# Altium footprint library Connector Footprints.PcbLib: 89 footprints (part 5 of 6)
Each footprint in its own frame and in the unit in brackets; x right, y up, seen from the top. Pads: shape width x height; smd on the part's side, far side on the other; paste and mask are expansions set on the pad; w line width, h text height; cw(c..) or ccw(c..) is an arc to the next point about the centre after c.
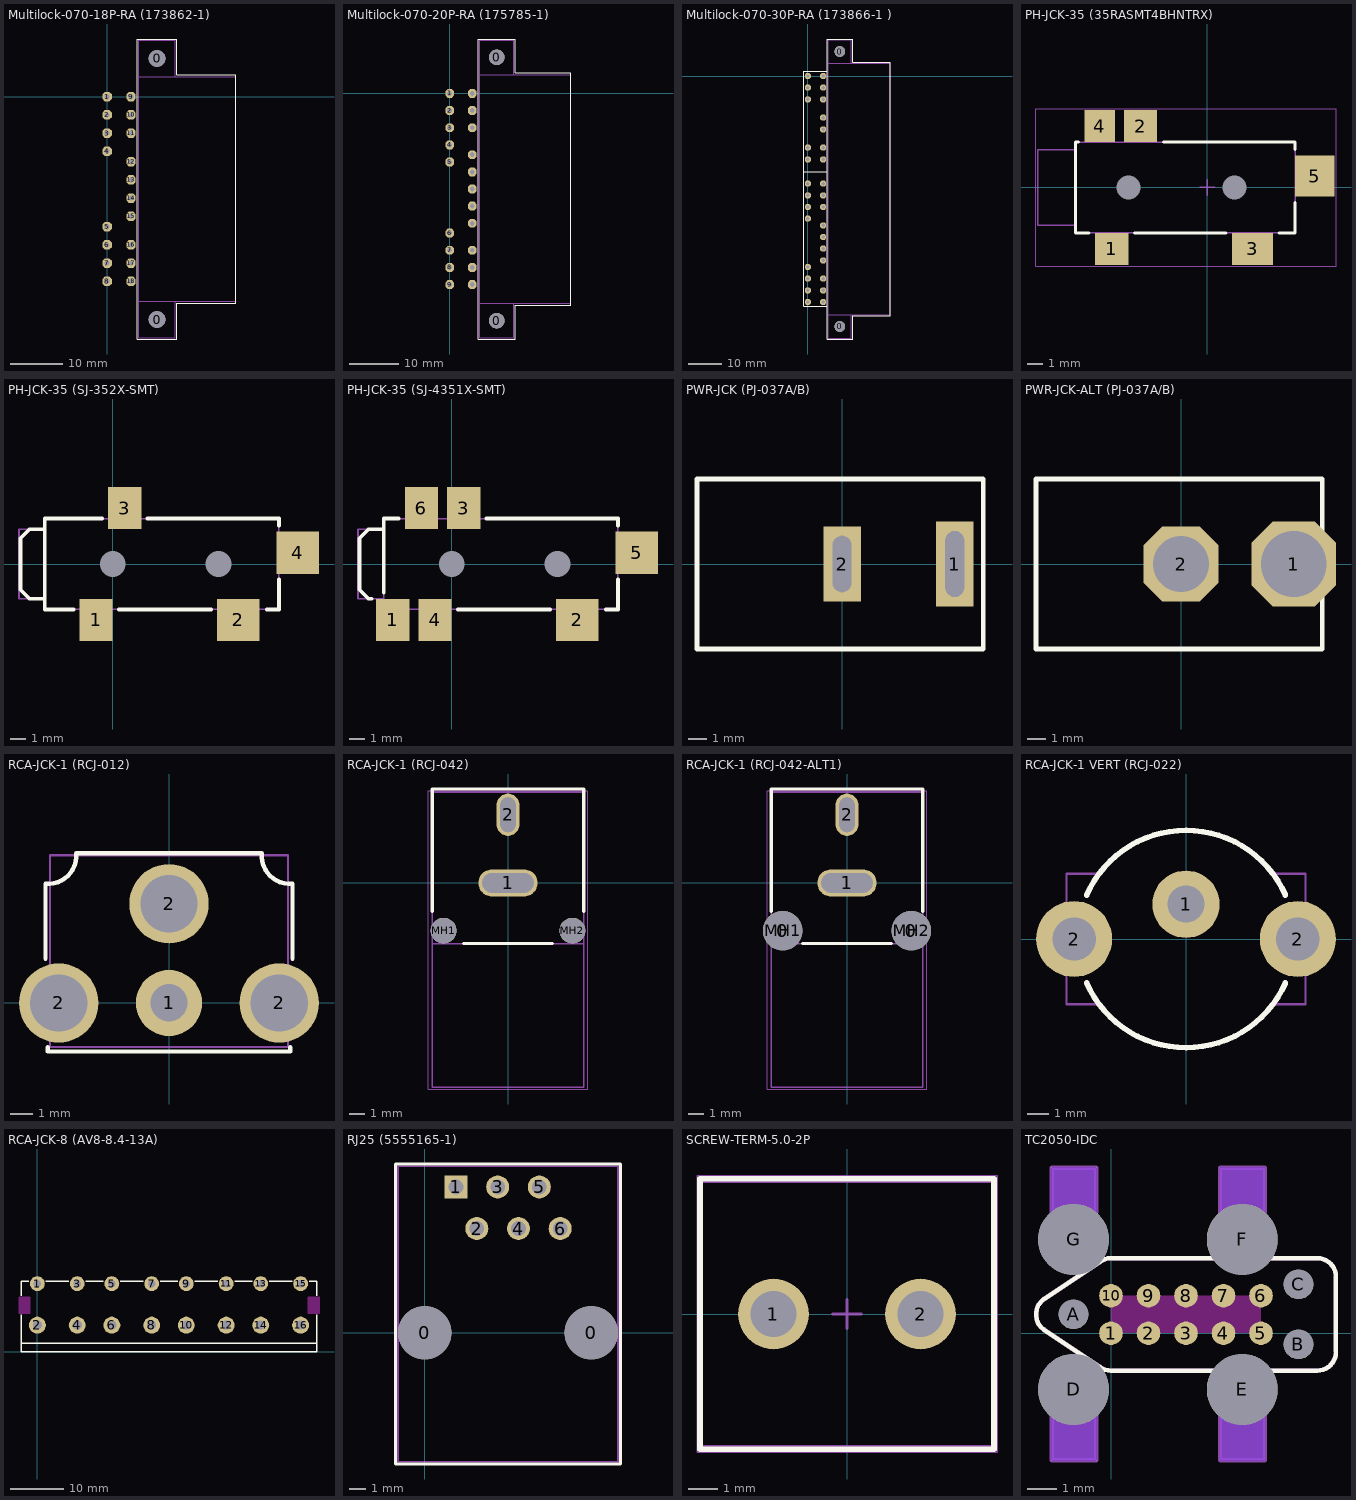
[diagram p4: the footprints below, top view; thin cyan lines are the x and y axes]

## Multilock-070-18P-RA (173862-1) [mm] "Multilock 070, 18 Pin, 3.5mm Pitch, Right Angle Mount"
height 15.8
pads (20):
  round 3.2 hole 3.2 unplated paste+0: 0(9.6,-42.85) 0(9.6,7.35)
  oct 1.8x1.8 hole 1: 1(0,0) 2(0,-3.5) 3(0,-7) 4(0,-10.5) 5(0,-25) 6(0,-28.5) 7(0,-32) 8(0,-35.5) 9(4.6,0) 10(4.6,-3.5) 11(4.6,-7) 12(4.6,-12.5) 13(4.6,-16) 14(4.6,-19.5) 15(4.6,-23) 16(4.6,-28.5) 17(4.6,-32) 18(4.6,-35.5)
Top Overlay:
  lines w0.2: 5.8,-39.35 5.8,3.85 5.8,11.1 13.4,11.1 13.4,4.2 24.7,4.2 24.7,-39.7 13.4,-39.7 13.4,-46.6 5.8,-46.6 5.8,-39.3
Bottom Overlay:
  text "9" at 5.4,3.2 h1.5
  text "1" at 0.8,2.7 h1.5
  text "8" at 0.8,-37.8 h1.5
  text "18" at 5.3,-37.2 h1.5
Mechanical 13:
  lines w0.2: 13.1,-39.35 13.1,-46.35 6.1,-46.35 6.1,-39.35 ; 13.1,3.85 13.1,10.85 6.1,10.85 6.1,3.85 ; 6.1,-39.35 6.1,3.85 ; 6.1,-39.35 24.7,-39.35 24.7,3.85 6.1,3.85
3D body "c-173862-1-y-3d.stp": height 15.98, standoff -3.9, extent -0.3,-46.2 24.62,10.6

## Multilock-070-20P-RA (175785-1) [mm] "Multilock 070, 20 Pin, 3.5mm Pitch, Right Angle Mount"
height 15.8
pads (22):
  round 3.2 hole 3.2 unplated paste+0: 0(9.6,-46.35) 0(9.6,7.35)
  oct 1.8x1.8 hole 1: 1(0,0) 2(0,-3.5) 3(0,-7) 4(0,-10.5) 5(0,-14) 6(0,-28.5) 7(0,-32) 8(0,-35.5) 9(0,-39) 10(4.6,0) 11(4.6,-3.5) 12(4.6,-7) 13(4.6,-12.5) 14(4.6,-16) 15(4.6,-19.5) 16(4.6,-23) 17(4.6,-26.5) 18(4.6,-32) 19(4.6,-35.5) 20(4.6,-39)
Top Overlay:
  lines w0.2: 5.8,-43 5.8,3.85 5.8,11.1 13.4,11.1 13.4,4.2 24.7,4.2 24.7,-43.2 13.4,-43.2 13.4,-50.1 5.8,-50.1 5.8,-42.95
Bottom Overlay:
  text "10" at 5.4,4.4 h1.5
  text "1" at 0.8,2.7 h1.5
  text "9" at 0.8,-41.5 h1.5
  text "20" at 5.3,-40.7 h1.5
Mechanical 13:
  lines w0.2: 6.1,-42.8 6.1,3.85 ; 13.1,-42.85 13.1,-49.85 6.1,-49.85 6.1,-42.85 24.7,-42.85 24.7,3.85 6.1,3.85 ; 13.1,3.85 13.1,10.85 6.1,10.85 6.1,3.85
3D body "c-0175785-01-d1-3d.stp": height 15.83, standoff -4, extent -0.32,-49.65 24.6,10.65

## Multilock-070-30P-RA (173866-1 ) [mm] "Multilock 070, 30 Pin, 3.5mm Pitch, Right Angle Mount"
height 15.8
pads (32):
  round 3.2 hole 3.2 unplated paste+0: 0(9.6,-75.15) 0(9.6,7.35)
  oct 1.8x1.8 hole 1: 1(0,0) 2(0,-3.5) 3(0,-7) 4(0,-21.5) 5(0,-25) 6(0,-32.3) 7(0,-35.8) 8(0,-39.3) 9(0,-42.8) 10(0,-57.3) 11(0,-60.8) 12(0,-64.3) 13(0,-67.8) 14(4.6,0) 15(4.6,-3.5) 16(4.6,-7) 17(4.6,-12.5) 18(4.6,-16) 19(4.6,-21.5) 20(4.6,-25) 21(4.6,-32.3) 22(4.6,-35.8) 23(4.6,-39.3) 24(4.6,-44.8) 25(4.6,-48.3) 26(4.6,-51.8) 27(4.6,-55.3) 28(4.6,-60.8) 29(4.6,-64.3) 30(4.6,-67.8)
Top Overlay:
  lines w0.2: -1.2,-28.65 5.8,-28.65 ; 5.8,-71.8 5.8,3.85 5.8,11.1 13.4,11.1 13.4,4.2 24.7,4.2 24.7,-72 13.4,-72 13.4,-78.9 5.8,-78.9 5.8,-71.75 ; 5.8,-69.1 -1.2,-69.1 -1.2,1.4 5.8,1.4
Bottom Overlay:
  lines w0.2: -1.2,-28.65 5.8,-28.65 ; -1.2,-28.65 -1.2,1.4 5.8,1.4 5.8,-28.65 ; -1.2,-28.65 -1.2,-69.1 5.8,-69.1 5.8,-28.65
  text "13" at 0.8,-70.1 h1.5
  text "30" at 5.3,-70.1 h1.5
  text "1" at 0.8,2.7 h1.5
  text "14" at 5.4,4.4 h1.5
Mechanical 13:
  lines w0.2: 6.1,-71.7 6.1,3.85 ; 13.1,-71.65 13.1,-78.65 6.1,-78.65 6.1,-71.65 24.7,-71.65 24.7,3.85 6.1,3.85 ; 13.1,3.85 13.1,10.85 6.1,10.85 6.1,3.85
3D body "c-2-173866-1-h3-3d.stp": height 15.9, standoff -3.9, extent -0.36,-78.5 24.56,10.6

## PH-JCK-35 (35RASMT4BHNTRX) [mm] "3.5mm TRS Jack, 5-Leads, Body 17x6mm"
height 5
pads (7):
  rect 2.2x2.1 smd: 1(-6.3,-4.05) 2(-4.4,4.05)
  rect 2.7x2.1 smd: 3(3,-4.05)
  rect 2x2.1 smd: 4(-7.1,4.05)
  rect 2.6x2.7 smd: 5(7.1,0.75)
  rect 0x0 hole 1.6 unplated: MH(-5.2,0) MH(1.8,0)
Top Overlay:
  lines w0.2: -8.5,3 -8.7,3 -8.7,-3 -7.8,-3 ; -4.8,-3 1.25,-3 ; -2.9,3 5.8,3 5.8,2.5 ; 4.75,-3 5.8,-3 5.8,-1
Mechanical 13:
  lines w0.1: -8.7,-2.499 -11.2,-2.499 -11.2,2.499 -8.7,2.499 ; -8.7,-3 -8.7,3 5.8,3 5.8,-3 -8.7,-3
Mechanical 15:
  lines w0.05: -11.3,-5.2 -11.3,5.2 8.5,5.2 8.5,-5.2 -11.3,-5.2
  lines w0.1: -0.5,0 0.5,0 ; 0,-0.5 0,0.5
3D body: height 0, standoff -0.8, extent -5.95,-0.75 -4.45,0.75
3D body: height 5, standoff 0, extent -11.2,-2.499 -8.7,2.499
3D body: height 5, standoff 0, extent -8.7,-3 5.8,3
3D body: height 0, standoff -0.8, extent 1.05,-0.75 2.55,0.75
3D body: height 4.3, standoff 0.7, extent -11.201,-1.8 -8.7,1.8

## PH-JCK-35 (SJ-352X-SMT) [mm] "CONN AUDIO JACK 3.5MM 4COND SMD"
height 5
pads (6):
  rect 2.2x2.8 smd: 1(-1.1,-3.7) 3(0.8,3.7)
  rect 2.8x2.8 smd: 2(8.3,-3.7) 4(12.25,0.75)
  round 0 hole 1.702 unplated: Align(0,0) Align(7,0)
Top Overlay:
  lines w0.254: -4.5,-2.3 -5.5,-2.3 -6.1,-1.7 -6.1,1.7 -5.5,2.3 -4.5,2.3 ; -2.6,-3 -4.5,-3 -4.5,3 -0.7,3 ; 0.4,-3 6.5,-3 ; 2.3,3 11,3 11,2.54 ; 10.2,-3 11,-3 11,-1.016
Mechanical 13:
  lines w0.1: -4.5,2.4 -4.5,-2.3 ; -4.5,-2.3 -6.2,-2.3 -6.2,2.3 -4.5,2.3 -4.5,3 11,3 11,-3 -4.5,-3 -4.5,-2.3
3D body "SJ-3524-SMT.stp": height 5, standoff -0.8, extent -6.1,-4.5 12.9,4.5

## PH-JCK-35 (SJ-4351X-SMT) [mm] "CONN AUDIO JACK 3.5MM 4COND SMD"
height 5
pads (8):
  rect 2.2x2.8 smd: 1(-3.9,-3.7) 3(0.8,3.7) 4(-1.1,-3.7) 6(-2,3.7)
  rect 2.8x2.8 smd: 2(8.3,-3.7) 5(12.25,0.75)
  round 0 hole 1.702 unplated: Align(0,0) Align(7,0)
Top Overlay:
  lines w0.254: -5.3,-2.3 -5.5,-2.3 -6.1,-1.7 -6.1,1.7 -5.5,2.3 -4.5,2.3 ; -4.5,-1.9 -4.5,3 -3.515,3 ; 0.4,-3 6.5,-3 ; 2.3,3 11,3 11,2.54 ; 10.2,-3 11,-3 11,-1.016
Mechanical 13:
  lines w0.1: -4.5,2.4 -4.5,-2.3 ; -4.5,-2.3 -6.2,-2.3 -6.2,2.3 -4.5,2.3 -4.5,3 11,3 11,-3 -4.5,-3 -4.5,-2.3
3D body "sj-43516-smt.stp": height 5.12, standoff -0.68, extent -6.2,-4.5 13,4.5

## PWR-JCK (PJ-037A/B) [mm] "DC Power Jack; 2.1mm ID, 6.5mm OD; No Switch"
height 11
pads (2):
  rect 2x4.5 hole 1 slot 3.5 at 90 deg: 1(6,0)
  rect 2x4 hole 1 slot 3 at 90 deg: 2(0,0)
Top Overlay:
  lines w0.254: -7.722,-4.521 7.524,-4.521 7.524,4.521 -7.722,4.521 -7.722,-4.521
Bottom Overlay:
  circle w0.4: c2.921,3.302 r0.2
  lines w0.254: -0.889,3.302 0,3.302 ; 0.762,3.302 2.159,3.302 ; 3.268,2.693 cw(c2.909,3.292) 3.296,3.873 ; 3.302,3.302 4.699,3.302 ; 5.524,3.302 6.413,3.302 ; 5.969,2.857 5.969,3.746
3D body "PJ-037B.stp": height 11.02, standoff -3.48, extent -7.7,-4.5 6.8,4.5

## PWR-JCK-ALT (PJ-037A/B) [mm] "Round Holes; DC Power Jack; 2.1mm ID, 6.5mm OD; No Switch;"
height 11
pads (2):
  oct 4.5x4.5 hole 3.5: 1(6,0)
  oct 4x4 hole 3: 2(0,0)
Top Overlay:
  lines w0.254: -7.722,-4.521 7.524,-4.521 7.524,4.521 -7.722,4.521 -7.722,-4.521
Bottom Overlay:
  circle w0.4: c2.921,3.302 r0.2
  lines w0.254: -0.889,3.302 0,3.302 ; 0.762,3.302 2.159,3.302 ; 3.268,2.693 cw(c2.909,3.292) 3.296,3.873 ; 3.302,3.302 4.699,3.302 ; 5.524,3.302 6.413,3.302 ; 5.969,2.857 5.969,3.746
3D body "PJ-037B.stp": height 11.02, standoff -3.48, extent -7.7,-4.5 6.8,4.5

## RCA-JCK-1 (RCJ-012) [mm] "RCA Phono Jack, Right Angle"
height 15.8
pads (4):
  round 3 hole 1.7: 1(0,0)
  round 3.6 hole 2.6: 2(-5,0) 2(0,4.5) 2(5,0)
Top Overlay:
  lines w0.2: -5.6,2 -5.6,5.4 ccw(c-5.5,6.7) -4.2,6.8 0,6.8 4.2,6.8 ccw(c5.5,6.7) 5.6,5.4 5.6,2 ; -5.5,-2 -5.5,-2.2 5.5,-2.2 5.5,-2
Mechanical 13:
  lines w0.1: -5.4,-2 5.4,-2 5.4,6.5 5.4,6.7 -5.4,6.7 -5.4,5.2 -5.4,-2
3D body "rcj-013.stp": height 13.4, standoff -2.8, extent -5.8,-1.3 5.8,13.2

## RCA-JCK-1 (RCJ-042) [mm] "RCA Phono Jack, Right Angle"
height 13
pads (4):
  oval 3.9x1.8 hole 1.3 slot 3.4 at 0 deg: 1(0,0)
  oval 1.5x2.8 hole 1 slot 2.3 at 90 deg: 2(0,4.5)
  round 1.7 hole 1.7 square unplated mask+0.102: MH1(-4.25,-3.15) MH2(4.25,-3.15)
Top Overlay:
  lines w0.2: -5,-1.9 -5,6.2 5,6.2 5,-1.9 ; -2.95,-4 2.95,-4
Mechanical 13:
  lines w0.1: -5,-4 5,-4 ; -5,-13.5 5,-13.5 5,6 -5,6 -5,-13.5
Mechanical 15:
  lines w0.05: -5.25,-13.6 5.25,-13.6 5.25,6.1 -5.25,6.1 -5.25,-13.6
  lines w0.1: -0.5,0 0.5,0 ; 0,-0.5 0,0.5
3D body "rcj-041.stp": height 11.51, standoff -3.98, extent -5,-13.5 5,6

## RCA-JCK-1 (RCJ-042-ALT1) [mm] "RCA Phono Jack, Right Angle"
height 13
pads (6):
  rect 1.8x1.7 on Mech13 paste+0: 0(-4.25,-3.15) 0(4.25,-3.15)
  oval 3.9x1.8 hole 1.3 slot 3.4 at 0 deg: 1(0,0)
  oval 1.5x2.8 hole 1 slot 2.3 at 90 deg: 2(0,4.5)
  round 2.6 hole 2.6 unplated: MH1(-4.25,-3.15) MH2(4.25,-3.15)
Top Overlay:
  lines w0.2: -5,-1.9 -5,6.2 5,6.2 5,-1.9 ; -2.95,-4 2.95,-4
Mechanical 13:
  lines w0.1: -5,-4 5,-4 ; -5,-13.5 5,-13.5 5,6 -5,6 -5,-13.5
Mechanical 15:
  lines w0.05: -5.25,-13.6 5.25,-13.6 5.25,6.1 -5.25,6.1 -5.25,-13.6
  lines w0.1: -0.5,0 0.5,0 ; 0,-0.5 0,0.5
3D body "rcj-041.stp": height 11.51, standoff -3.98, extent -5,-13.5 5,6

## RCA-JCK-1 VERT (RCJ-022) [mm] "RCA Phono Jack, Straight, Vertical"
height 15.8
pads (3):
  round 3.1 hole 1.7: 1(0,1.6)
  round 3.5 hole 2: 2(-5.15,0) 2(5.15,0)
Top Overlay:
  lines w0.254: -4.573,-2.023 ccw(c0,0) 4.573,-2.021 ; -4.573,2.023 cw(c0,0) 4.573,2.021
Mechanical 13:
  lines w0.1: -4,-3 -5.5,-3 -5.5,3 -4,3 ; -3.977,-3.03 ccw(c0,0) 4,-3 5.5,-3 5.5,3 4,3 ccw(c0,0) -3.977,3.03
3D body "RCJ-023.stp": height 16.1, standoff -6, extent -6.477,-5 6.477,5

## RCA-JCK-8 (AV8-8.4-13A) [mm] "RCA Phono Jack, 4x2 Connectors, Right Angle, Stacked"
pads (16):
  round 2.8 hole 1.4: 1(0,12.8) 3(7.5,12.8) 5(14,12.8) 7(21.5,12.8) 9(28,12.8) 11(35.5,12.8) 13(42,12.8) 15(49.5,12.8)
  round 3.2 hole 1.7: 2(0,5) 4(7.5,5) 6(14,5) 8(21.5,5) 10(28,5) 12(35.5,5) 14(42,5) 16(49.5,5)
Top Overlay:
  lines w0.254: -3,1.6 52.5,1.6 ; -3,7 -3,0 52.5,0 52.5,7 ; -3,10.5 -3,13.3 -1.6,13.3 ; 1.6,13.3 5.9,13.3 ; 9.1,13.3 12.4,13.3 ; 15.6,13.3 19.9,13.3 ; 23.1,13.3 26.4,13.3 ; 29.6,13.3 33.9,13.3 ; 37.1,13.3 40.4,13.3 ; 43.6,13.3 47.9,13.3 ; 51.1,13.3 52.5,13.3 52.5,10.5
Keep-Out Layer:
  board cut-out: -3.45,10.25 -1.45,10.25 -1.45,7.25 -3.45,7.25
  board cut-out: 50.95,10.25 52.95,10.25 52.95,7.25 50.95,7.25
  lines w0.254: -3.45,7.25 -3.45,10.25 -1.45,10.25 -1.45,7.25 -3.45,7.25 ; 50.95,7.25 50.95,10.25 52.95,10.25 52.95,7.25 50.95,7.25

## RJ25 (5555165-1) [mm] "RJ25 Modular Jack; TE Connectivity; 6 Position; Horizontal Mount"
height 12.7
pads (8):
  round 3.25 hole 3.25 unplated: 0(0,0) 0(10.16,0)
  rect 1.4x1.4 hole 0.9: 1(1.91,8.89)
  round 1.4 hole 0.9: 2(3.18,6.35) 3(4.45,8.89) 4(5.72,6.35) 5(6.99,8.89) 6(8.26,6.35)
Top Overlay:
  lines w0.2: -1.778,-8.001 -1.778,-7.874 -1.778,10.287 11.938,10.287 11.938,-7.87 11.938,-8.001 -1.778,-8.001
Bottom Overlay:
  text "6" at 10.668,5.842 h1.2
  text "1" at 0.254,8.255 h1.2
Mechanical 13:
  lines w0.1: -1.625,-7.874 -1.625,10.16 11.785,10.16 11.785,-7.874 -1.625,-7.874
3D body "c-5555165-1-e-3d.stp": height 12.64, standoff -3.75, extent -1.562,-8.255 11.722,9.779

## SCREW-TERM-5.0-2P [mm] "Screw Terminal Block, 2-Leads, Pitch 5mm, 90 Degree Angle, Through-Hole"
height 18.2
pads (2):
  round 2.4 hole 1.55: 1(-2.5,0) 2(2.5,0)
Top Overlay:
  lines w0.2: -5,-4.6 -5,4.6 5,4.6 5,-4.6 -5,-4.6
Mechanical 13:
  lines w0.1: -5,-4.5 5,-4.5 5,4.5 -4.3,4.5 -4.3,4.5 -5,4.5 -5,-4.5
Mechanical 15:
  lines w0.05: -5.1,-4.7 -5.1,4.7 5.1,4.7 5.1,-4.7 -5.1,-4.7
  lines w0.1: -0.5,0 0.5,0 ; 0,-0.5 0,0.5
3D body "17573.stp": height 13.55, standoff -4.05, extent -5,-4.5 5,4.5

## TC2050-IDC [mm] "Tag-Connect 10-Pin Header with Legs"
pads (17):
  round 0.8 smd paste-0.9: 1(0,0) 2(1.27,0) 3(2.54,0) 4(3.81,0) 5(5.08,0) 6(5.08,1.27) 7(3.81,1.27) 8(2.54,1.27) 9(1.27,1.27) 10(0,1.27)
  round 1 hole 1 paste-1.1: A(-1.27,0.635) B(6.35,-0.381) C(6.35,1.651)
  round 2.4 hole 2.4 paste-2.5: D(-1.27,-1.905) E(4.445,-1.905) F(4.445,3.175) G(-1.27,3.175)
Top Layer keep-out:
  rectangle: 0,0 5.08,1.27
Bottom Layer keep-out:
  region: 3.7,4.1 5.2,4.1 5.2,5.6 3.7,5.6
  region: -2,4.1 -0.5,4.1 -0.5,5.6 -2,5.6
  region: 3.7,-4.3 5.2,-4.3 5.2,-2.8 3.7,-2.8
  region: -2,-4.3 -0.5,-4.3 -0.5,-2.8 -2,-2.8
Top Overlay:
  lines w0.152: -2.286,0.127 cw(c-1.905,0.635) -2.286,1.143 -0.381,2.413 cw(c0,1.905) 0,2.54 6.985,2.54 cw(c6.985,1.905) 7.62,1.905 7.62,-0.635 cw(c6.985,-0.635) 6.985,-1.27 0,-1.27 cw(c0,-0.635) -0.381,-1.143 -2.286,0.127
Mechanical 13:
  lines w0.152: 7.62,-0.635 cw(c6.985,-0.635) 6.985,-1.27 0,-1.27 cw(c0,-0.635) -0.381,-1.143 -2.286,0.127 cw(c-1.905,0.635) -2.286,1.143 -0.381,2.413 cw(c0,1.905) 0,2.54 6.985,2.54 cw(c6.985,1.905) 7.62,1.905 ; -2,-4.3 -0.5,-4.3 -0.5,-2.8 -2,-2.8 -2,-4.3 ; -2,4.1 -0.5,4.1 -0.5,5.6 -2,5.6 -2,4.1 ; 3.7,-4.3 3.7,-2.8 5.2,-2.8 5.2,-4.3 3.7,-4.3 ; 3.7,4.1 5.2,4.1 5.2,5.6 3.7,5.6 3.7,4.1